# EAGLE library part 653111131822 (library Wire-to-Board (rev18a))
WR-WTB 1.25mm SMT Male Horizontal Shrouded Header, 11 Pins=>Code : Con_WTB_1.25_PCB_SMT_653111131822 <http://katalog.we-online.de/media/thumbs2/eican/thb_Con_WTB_1.25_PCB_SMT_6531xx131822_pf2.jpg> Details see: http://katalog.we-online.de/en/em/WTB_1_25_SMT_MALE_HORIZONTAL_SHROUDED_HEADER_6531XX131822 Created 2014-06-06, Karrer Zheng 2014 (C) Würth Elektronik
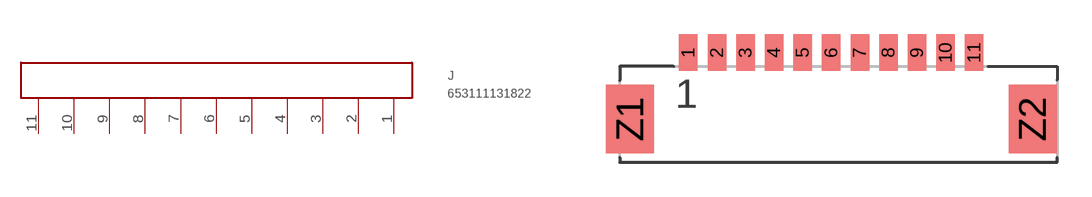
[diagram p68: symbol with the pads of 653111131822; footprint 653111131822]

Designator prefix J

## 653111131822  [653111131822]
1  11  pas
2  10  pas
3  9  pas
4  8  pas
5  7  pas
6  6  pas
7  5  pas
8  4  pas
9  3  pas
10  2  hiz
11  1  pas

## Footprint 653111131822 (pad centres in mm)
WR-WTB 1.25mm SMT Male Horizontal Shrouded Header, 11 Pins
smd 0.81 x 1.6: 1 -6.25,0; 2 -5,0; 3 -3.75,0; 4 -2.5,0; 5 -1.25,0; 6 0,0; 7 1.25,0; 8 2.5,0; 9 3.75,0; 10 5,0; 11 6.25,0
smd 2.1 x 3: Z1 -8.8,-2.9; Z2 8.8,-2.9